# Altium footprint library sd_card.PcbLib: 1 footprints
Each footprint in its own frame and in the unit in brackets; x right, y up, seen from the top. Pads: shape width x height; smd on the part's side, far side on the other; paste and mask are expansions set on the pad; w line width, h text height; cw(c..) or ccw(c..) is an arc to the next point about the centre after c.
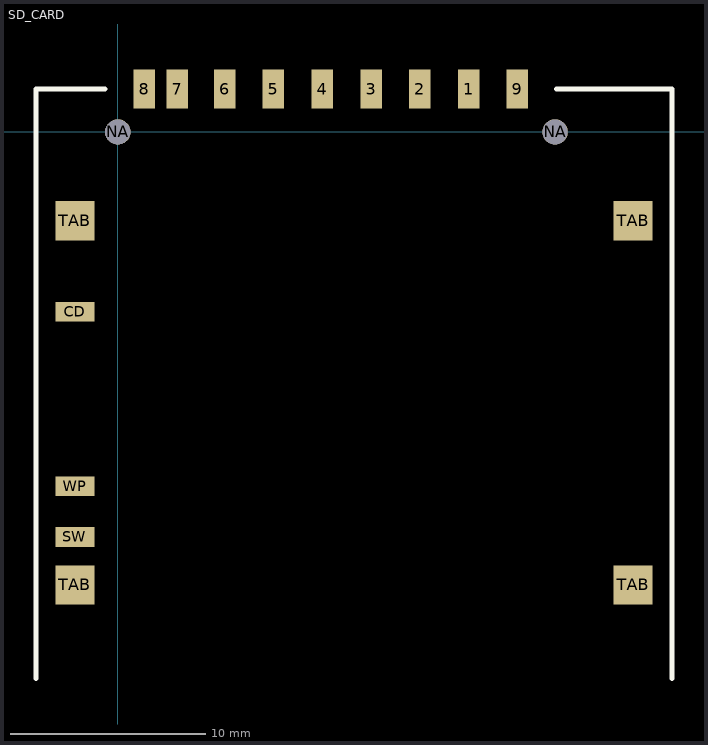
[diagram p0: the footprint, top view; thin cyan lines are the x and y axes]

## SD_CARD [mm]
height 2.9
pads (18):
  rect 1.1x2 smd: 1(17.975,2.2) 2(15.475,2.2) 3(12.975,2.2) 4(10.475,2.2) 5(7.975,2.2) 6(5.475,2.2) 7(3.05,2.2) 8(1.35,2.2) 9(20.475,2.2)
  rect 2x1 smd: CD(-2.2,-9.2) SW(-2.2,-20.75) WP(-2.2,-18.15)
  round 1.3 hole 1.3 unplated: NA(0,0) NA(22.4,0)
  rect 2x2 smd: TAB(-2.2,-23.2) TAB(-2.2,-4.55) TAB(26.4,-23.2) TAB(26.4,-4.55)
Top Overlay:
  lines w0.254: -4.2,-28 -4.2,2.2 -0.65,2.2 ; 22.475,2.2 28.4,2.2 28.4,-28
3D body: height 2.9, standoff -0.55, extent -2.9,-27.95 27.1,2.55